# Altium schematic symbol library UCC27712D_1.Schlib: 1 symbol
Pins are listed as number, name and electrical type; pins without a type are passive.

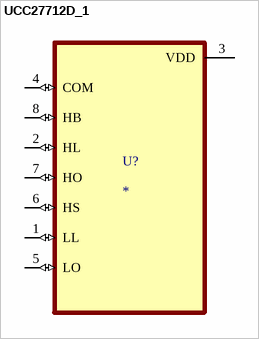
[diagram p0: symbol UCC27712D_1]

## UCC27712D_1
designator U?
1.8-A/2.8-A, 620V half bridge driver with interlock
pins: 1 LL (io), 2 HL (io), 3 VDD (power), 4 COM (io), 5 LO (io), 6 HS (io), 7 HO (io), 8 HB (io)